# EAGLE library part ISP (library 0_my_parts)
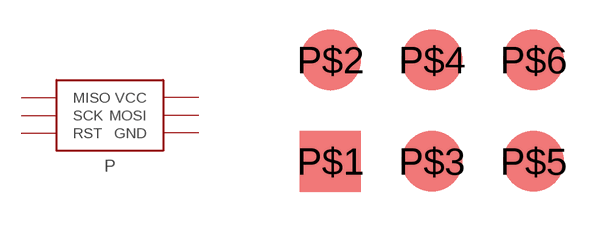
[diagram p5: symbol with the pads of ISP; footprint ISP]

Designator prefix P

## ISP  [ISP]
P$1  MISO  in
P$2  VCC  pwr
P$3  SCK  out
P$4  MOSI  out
P$5  RST  out
P$6  GND  pwr

## Footprint ISP (pad centres in mm)
smd 1.524 x 1.524: P$1 -2.54,-1.27; P$2 -2.54,1.27; P$3 0,-1.27; P$4 0,1.27; P$5 2.54,-1.27; P$6 2.54,1.27